# EAGLE library part BA6110 (library ic)
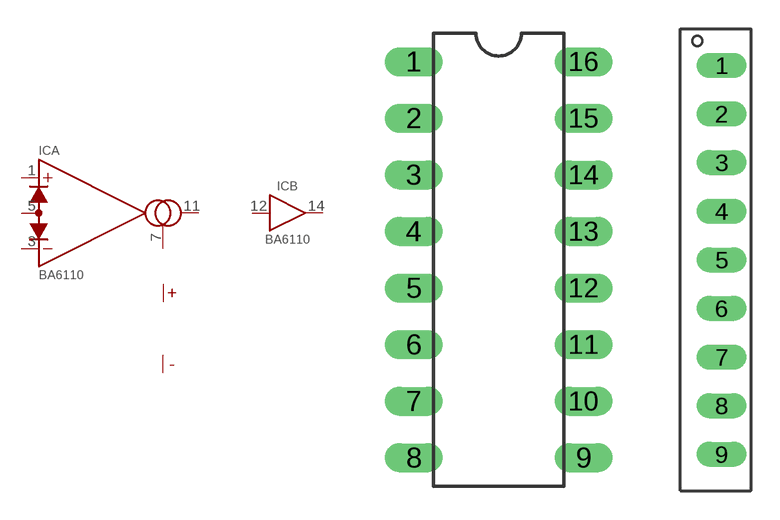
[diagram p34: symbol with the pads of DIL16; footprints DIL16, SIP9]

Designator prefix IC; gates A=OTA B=BUFFER 1=PWR+-OTA

## BA6110-DIL16  [DIL16]
1  A:+IN  in
3  A:-IN  in
5  A:DIODE/BIAS  pas
7  A:AMP/BIAS  in
9  1:V-  pwr
11  A:OUT  out
12  B:B_IN  in
14  B:B_OUT  out
15  1:V+  pwr

## BA6110-SIL9  [SIP9]
1  A:+IN  in
2  A:-IN  in
3  A:DIODE/BIAS  pas
4  A:AMP/BIAS  in
5  1:V-  pwr
6  A:OUT  out
7  B:B_IN  in
8  B:B_OUT  out
9  1:V+  pwr

## Footprint DIL16 (pad centres in mm)
drill 0.8 pad 1.27 long: 1 -3.81,8.89; 2 -3.81,6.35; 3 -3.81,3.81; 4 -3.81,1.27; 5 -3.81,-1.27; 6 -3.81,-3.81; 7 -3.81,-6.35; 8 -3.81,-8.89; 9 3.81,-8.89; 10 3.81,-6.35; 11 3.81,-3.81; 12 3.81,-1.27; 13 3.81,1.27; 14 3.81,3.81; 15 3.81,6.35; 16 3.81,8.89

## Footprint SIP9 (pad centres in mm)
drill 0.8 pad 1.27 long: 1 0,7.62; 2 0,5.08; 3 0,2.54; 4 0,0; 5 0,-2.54; 6 0,-5.08; 7 0,-7.62; 8 0,-10.16; 9 0,-12.7